# Altium footprint library SPT10.PcbLib: 22 footprints (part 2 of 2)
Each footprint in its own frame and in the unit in brackets; x right, y up, seen from the top. Pads: shape width x height; smd on the part's side, far side on the other; paste and mask are expansions set on the pad; w line width, h text height; cw(c..) or ccw(c..) is an arc to the next point about the centre after c.
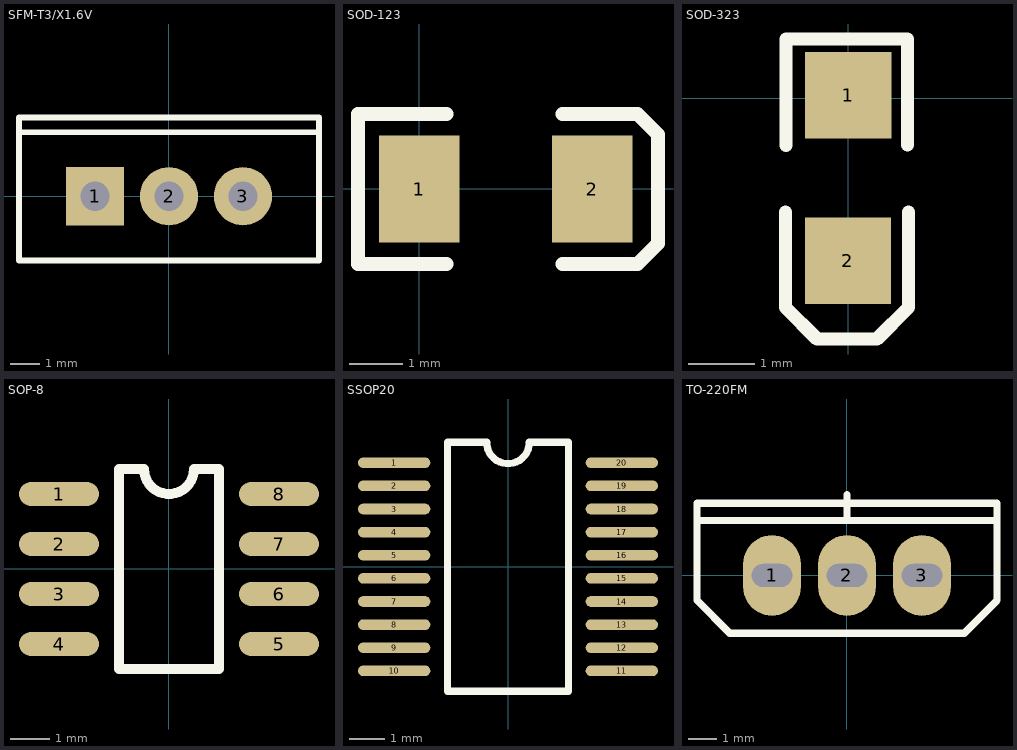
[diagram p1: the footprints below, top view; thin cyan lines are the x and y axes]

## SFM-T3/X1.6V [mm]
pads (3):
  rect 2x2 hole 1: 1(-2.54,0)
  round 2 hole 1: 2(0,0) 3(2.54,0)
Top Overlay:
  lines w0.2: -5.15,2.2 5.15,2.2 ; -5.15,-2.2 5.15,-2.2 5.15,2.7 -5.15,2.7 -5.15,-2.2

## SOD-123 [mm]
pads (2):
  rect 1.5x2 smd: 1(0,0) 2(3.22,0)
Top Overlay:
  lines w0.254: 0.508,-1.397 -1.143,-1.397 -1.143,1.397 0.508,1.397 ; 2.667,-1.397 4.064,-1.397 4.445,-1.016 4.445,1.016 4.064,1.397 2.667,1.397

## SOD-323 [mm]
pads (2):
  rect 1.3x1.3 smd: 1(0,0.045) 2(-0.007,-2.444)
Top Overlay:
  lines w0.2: -0.948,-1.718 -0.948,-3.149 -0.473,-3.624 0.43,-3.624 0.905,-3.149 0.905,-1.718 ; -0.941,-0.709 -0.941,0.891 ; -0.94,0.891 0.89,0.891 0.89,-0.702

## SOP-8 [mil]
pads (8):
  oval 80x24 smd: 1(-110,75) 2(-110,25) 3(-110,-25) 4(-110,-75) 5(110,-75) 6(110,-25) 7(110,25) 8(110,75)
Top Overlay:
  lines w10: -50,-100 50,-100 50,100 25,100 cw(c0,100) -25,100 -50,100 -50,-100

## SSOP20 [mm]
pads (20):
  oval 2.032x0.3 smd: 1(-3.2,2.925) 2(-3.2,2.275) 3(-3.2,1.625) 4(-3.2,0.975) 5(-3.2,0.325) 6(-3.2,-0.325) 7(-3.2,-0.975) 8(-3.2,-1.625) 9(-3.2,-2.275) 10(-3.2,-2.925) 11(3.2,-2.925) 12(3.2,-2.275) 13(3.2,-1.625) 14(3.2,-0.975) 15(3.2,-0.325) 16(3.2,0.325) 17(3.2,0.975) 18(3.2,1.625) 19(3.2,2.275) 20(3.2,2.925)
Top Overlay:
  lines w0.2: -1.7,3.5 -0.6,3.5 ; 0.6,3.5 1.7,3.5
  lines w0.203: -1.7,3.5 -1.7,-3.5 1.7,-3.5 1.7,3.5 ; -0.6,3.5 ccw(c0,3.5) 0.6,3.5

## TO-220FM [mm]
pads (3):
  oval 2x2.8 hole 0.8 slot 1.4 at 0 deg: 1(-2.6,0) 2(0,0) 3(2.6,0)
Top Overlay:
  lines w0.254: -5.2,1.905 5.2,1.905 ; 0,1.905 0,2.794 ; 5.175,-0.889 4.064,-2 -4.064,-2 -5.2,-0.864 -5.2,2.5 5.2,2.5 5.2,-0.864